# Altium schematic symbol library Microcontroller.SchLib: 17 symbols
Pins are listed as number, name and electrical type; pins without a type are passive.

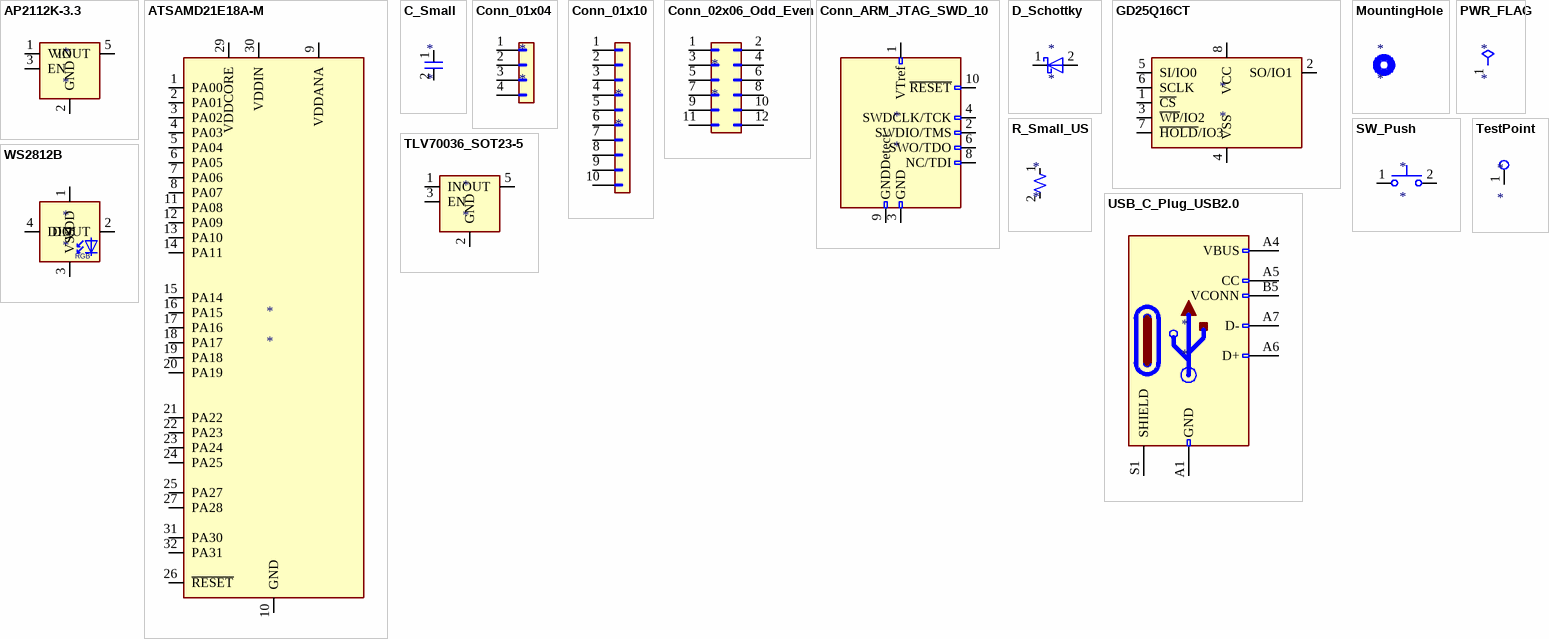
[diagram p0: symbols AP2112K-3.3 to WS2812B]

## AP2112K-3.3
designator *
pins: 1 VIN, 2 GND, 3 EN, 4 NC hidden, 5 VOUT

## ATSAMD21E18A-M
designator *
pins: 1 PA00, 2 PA01, 3 PA02, 4 PA03, 5 PA04, 6 PA05, 7 PA06, 8 PA07, 9 VDDANA, 10 GND, 11 PA08, 12 PA09, 13 PA10, 14 PA11, 15 PA14, 16 PA15, 17 PA16, 18 PA17, 19 PA18, 20 PA19, 21 PA22, 22 PA23, 23 PA24, 24 PA25, 25 PA27, 26 ~{RESET}, 27 PA28, 28 GND hidden, 29 VDDCORE, 30 VDDIN, 31 PA30, 32 PA31, 33 EP hidden

## C_Small
designator *
pins: 1, 2

## Conn_01x04
designator *
pins: 1 Pin_1, 2 Pin_2, 3 Pin_3, 4 Pin_4

## Conn_01x10
designator *
pins: 1 Pin_1, 2 Pin_2, 3 Pin_3, 4 Pin_4, 5 Pin_5, 6 Pin_6, 7 Pin_7, 8 Pin_8, 9 Pin_9, 10 Pin_10

## Conn_02x06_Odd_Even
designator *
pins: 1 Pin_1, 2 Pin_2, 3 Pin_3, 4 Pin_4, 5 Pin_5, 6 Pin_6, 7 Pin_7, 8 Pin_8, 9 Pin_9, 10 Pin_10, 11 Pin_11, 12 Pin_12

## Conn_ARM_JTAG_SWD_10
designator *
pins: 1 VTref, 2 SWDIO/TMS, 3 GND, 4 SWDCLK/TCK, 5 GND hidden, 6 SWO/TDO, 7 KEY hidden, 8 NC/TDI, 9 GNDDetect, 10 ~{RESET}

## D_Schottky
designator *
pins: 1 K, 2 A

## GD25Q16CT
designator *
pins: 1 ~{CS}, 2 SO/IO1, 3 ~{WP}/IO2, 4 VSS, 5 SI/IO0, 6 SCLK, 7 ~{HOLD}/IO3, 8 VCC

## MountingHole
designator *

## PWR_FLAG
designator *  (graphical)
pins: 1 pwr

## R_Small_US
designator *
pins: 1, 2

## SW_Push
designator *
pins: 1, 2

## TestPoint
designator *
pins: 1

## TLV70036_SOT23-5
designator *
pins: 1 IN, 2 GND, 3 EN, 4 NC hidden, 5 OUT

## USB_C_Plug_USB2.0
designator *
pins: A1 GND, A4 VBUS, A5 CC, A6 D+, A7 D-, A9 VBUS hidden, A12 GND hidden, B1 GND hidden, B4 VBUS hidden, B5 VCONN, B9 VBUS hidden, B12 GND hidden, S1 SHIELD

## WS2812B
designator *
pins: 1 VDD, 2 DOUT, 3 VSS, 4 DIN
text: RGB